# Altium footprint library PcbLib.PcbLib: 285 footprints (part 15 of 18)
Each footprint in its own frame and in the unit in brackets; x right, y up, seen from the top. Pads: shape width x height; smd on the part's side, far side on the other; paste and mask are expansions set on the pad; w line width, h text height; cw(c..) or ccw(c..) is an arc to the next point about the centre after c.
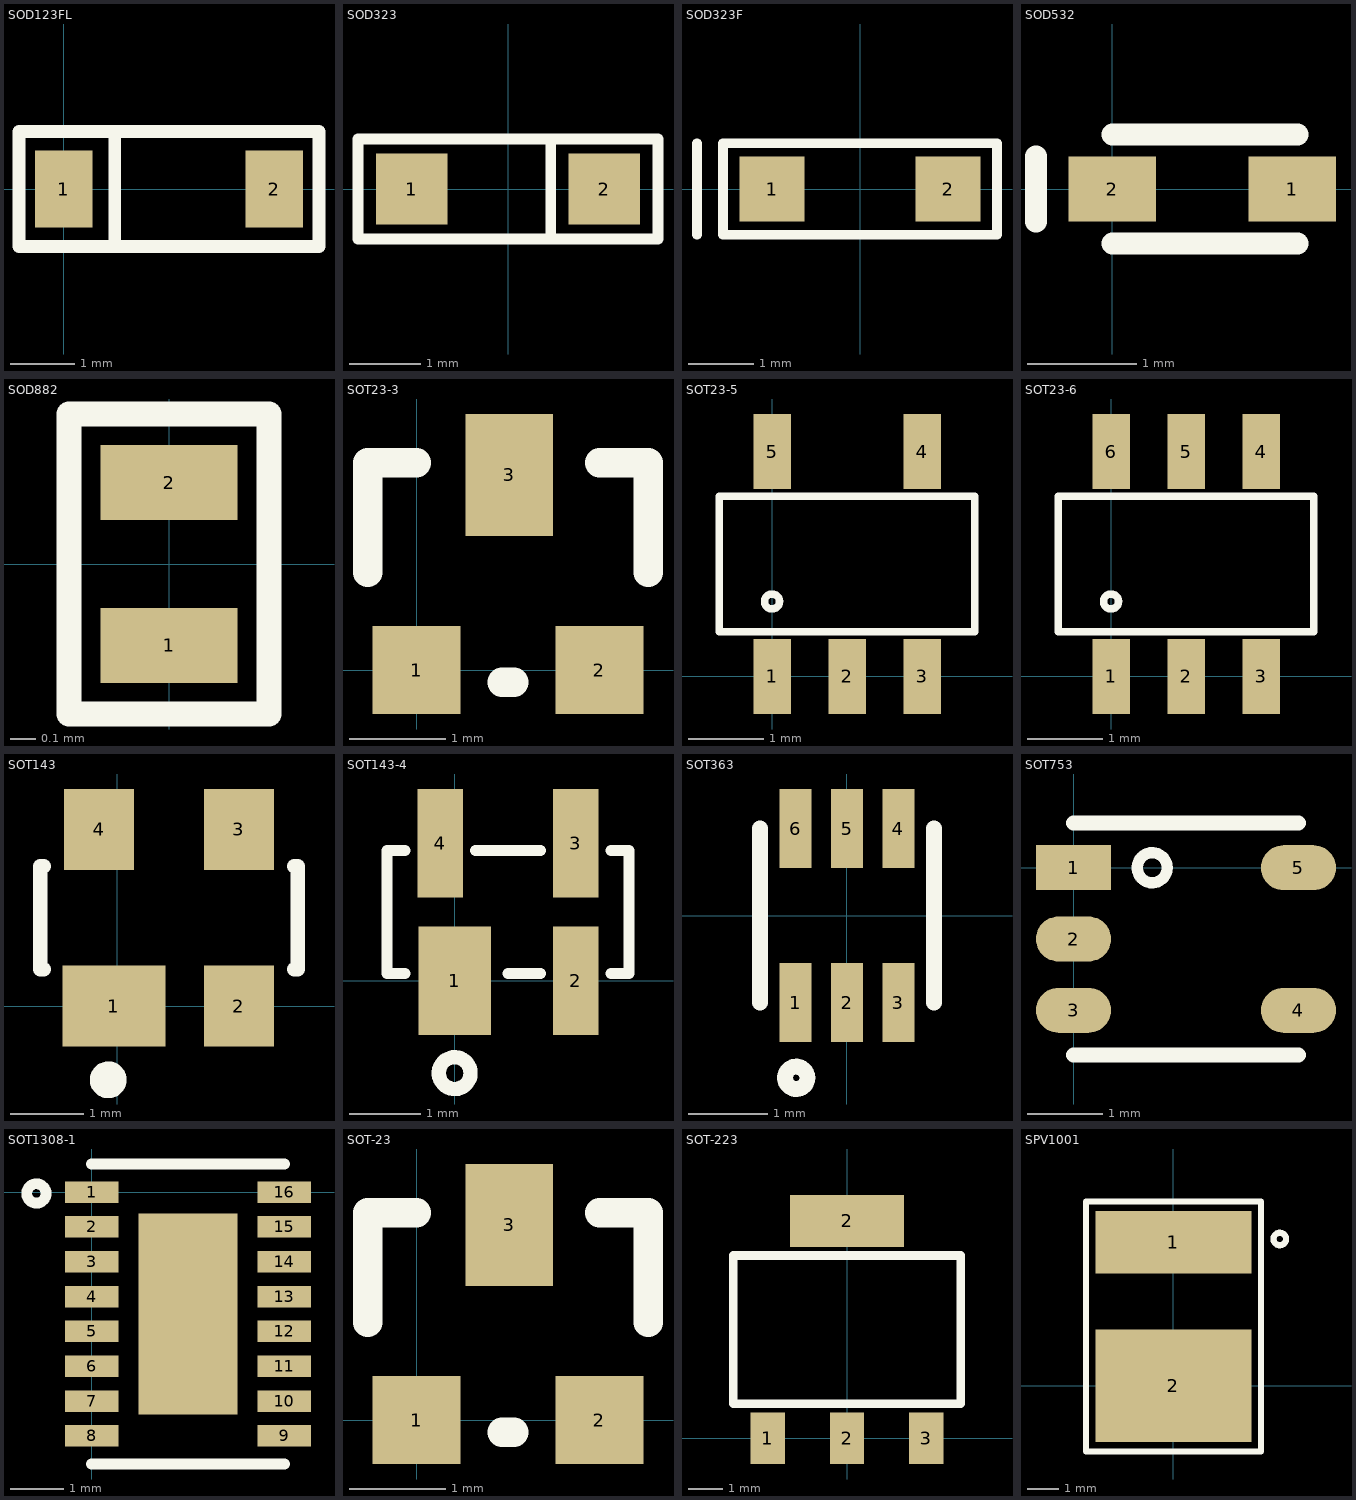
[diagram p14: the footprints below, top view; thin cyan lines are the x and y axes]

## SOD123FL [mm]
pads (2):
  rect 0.9x1.2 smd: 1(0,0) 2(3.3,0)
Top Overlay:
  lines w0.2: 0.8,-0.9 0.8,0.9 ; -0.7,-0.9 -0.7,0.9 4,0.9 4,-0.9 -0.7,-0.9

## SOD323 [mm]
pads (2):
  rect 1x1 smd: 1(-1.35,0) 2(1.35,0)
Top Overlay:
  lines w0.15: 0.6,-0.7 0.6,0.7 ; -2.1,-0.7 -2.1,0.7 -0.6,0.7 0,0.7 2.1,0.7 2.1,-0.7 0,-0.7 -0.6,-0.7 -2.1,-0.7

## SOD323F [mm]
pads (2):
  rect 1x1 smd: 1(-1.35,0) 2(1.35,0)
Top Overlay:
  lines w0.15: -2.5,-0.7 -2.5,0.7 ; -2.1,-0.7 -0.6,-0.7 0,-0.7 2.1,-0.7 2.1,0.7 0,0.7 -0.6,0.7 -2.1,0.7 -2.1,-0.7

## SOD532 [mm]
pads (2):
  rect 0.8x0.6 smd: 1(1.65,0) 2(0,0)
Top Overlay:
  lines w0.2: -0.7,-0.3 -0.7,0.3 ; 0,-0.5 1.7,-0.5 ; 0,0.5 1.7,0.5

## SOD882 [mm]
pads (2):
  rect 0.55x0.3 smd: 1(0,-0.325) 2(0,0.325)
Top Overlay:
  lines w0.1: -0.4,-0.6 0.4,-0.6 0.4,0.6 -0.4,0.6 -0.4,-0.6

## SOT23-3 [mil]
pads (3):
  rect 36x36 smd: 1(0,0) 2(75,0)
  rect 36x50 smd: 3(38,80)
Top Overlay:
  lines w12: -20,40 -20,85 0,85 ; 35,-5 40,-5 ; 75,85 95,85 95,40

## SOT23-5 [mm]
pads (5):
  rect 0.5x1 smd: 1(0,0) 2(1,0) 3(2,0) 4(2,3) 5(0,3)
Top Overlay:
  circle w0.1: c0,1 r0.1
  lines w0.1: -0.7,0.6 -0.7,2.4 2.7,2.4 2.7,0.6 -0.7,0.6

## SOT23-6 [mm]
pads (6):
  rect 0.5x1 smd: 1(0,0) 2(1,0) 3(2,0) 4(2,3) 5(1,3) 6(0,3)
Top Overlay:
  circle w0.1: c0,1 r0.1
  lines w0.1: -0.7,0.6 -0.7,2.4 2.7,2.4 2.7,0.6 -0.7,0.6

## SOT143 [mm] "SOT-143; 4 Leads; Body 3 x 2.5 mm, inc. leads (LxW max)"
height 1.2
pads (4):
  rect 1.4x1.1 smd: 1(-0.05,0)
  rect 0.95x1.1 smd: 2(1.65,0) 3(1.65,2.4) 4(-0.25,2.4)
Top Overlay:
  circle w0.25: c-0.125,-1 r0.125
  lines w0.2: -1,0.5 -1.05,0.5 -1.05,1.9 -1,1.9 ; 2.4,0.5 2.45,0.5 2.45,1.9 2.4,1.9

## SOT143-4 [mil]
pads (4):
  rect 40x60 smd: 1(0,0)
  rect 25x60 smd: 2(67,0) 3(67,76) 4(-8,76)
Top Overlay:
  circle w7.87: c0,-51.18 r8.8
  lines w6: -27.5,4 -37.5,4 -37.5,72 -27.5,72 ; 11.5,72 47.5,72 ; 29.5,4 47.5,4 ; 86.5,4 96.5,4 96.5,72 86.5,72

## SOT363 [mm]
pads (6):
  rect 0.4x1 smd: 1(-0.65,-1.1) 2(0,-1.1) 3(0.65,-1.1) 4(0.65,1.1) 5(0,1.1) 6(-0.65,1.1)
Top Overlay:
  circle w0.2: c-0.641,-2.05 r0.141
  lines w0.2: -1.1,-1.1 -1.1,1.1 ; 1.1,-1.1 1.1,1.1

## SOT753 [mm]
pads (5):
  rect 1x0.6 smd: 1(0,0)
  oval 1x0.6 smd: 2(0,-0.95) 3(0,-1.9) 4(3,-1.9) 5(3,0)
Top Overlay:
  circle w0.15: c1.05,0 r0.2
  lines w0.2: 0,-2.5 3,-2.5 ; 0,0.6 3,0.6

## SOT1308-1 [mm]
pads (17):
  rect 1x0.4 smd: 1(0,0) 2(0,-0.65) 3(0,-1.3) 4(0,-1.95) 5(0,-2.6) 6(0,-3.25) 7(0,-3.9) 8(0,-4.55) 9(3.6,-4.55) 10(3.6,-3.9) 11(3.6,-3.25) 12(3.6,-2.6) 13(3.6,-1.95) 14(3.6,-1.3) 15(3.6,-0.65) 16(3.6,0)
  rect 1.85x3.75 smd: ""(1.8,-2.275)
Top Overlay:
  circle w0.2: c-1.03,-0.025 r0.18
  lines w0.2: 0,-5.075 1.8,-5.075 3.6,-5.075 ; 0,0.525 1.8,0.525 3.6,0.525

## SOT-23 [mil]
pads (3):
  rect 36x36 smd: 1(0,0) 2(75,0)
  rect 36x50 smd: 3(38,80)
Top Overlay:
  lines w12: -20,40 -20,85 0,85 ; 35,-5 40,-5 ; 75,85 95,85 95,40

## SOT-223 [mm]
pads (4):
  rect 1x1.5 smd: 1(-2.3,0) 2(0,0) 3(2.3,0)
  rect 3.3x1.5 smd: 2(0,6.3)
Top Overlay:
  lines w0.254: -3.3,1 -3.3,5.3 3.3,5.3 3.3,1 0,1 -3.3,1

## SPV1001 [mm]
pads (2):
  rect 5x2 smd: 1(0,4.6)
  rect 5x3.6 smd: 2(0,0)
Top Overlay:
  circle w0.2: c3.4,4.7 r0.2
  lines w0.2: -2.8,-2.1 2.8,-2.1 2.8,5.9 -2.5,5.9 -2.8,5.9 -2.8,-2.1